# Altium footprint library FPGAOsci.PcbLib: 1 footprints
Each footprint in its own frame and in the unit in brackets; x right, y up, seen from the top. Pads: shape width x height; smd on the part's side, far side on the other; paste and mask are expansions set on the pad; w line width, h text height; cw(c..) or ccw(c..) is an arc to the next point about the centre after c.
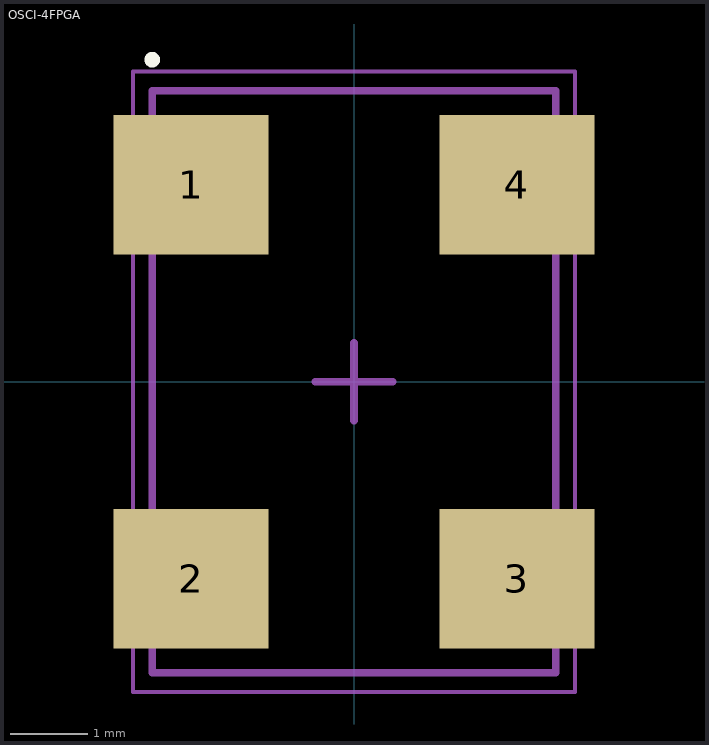
[diagram p0: the footprint, top view; thin cyan lines are the x and y axes]

## OSCI-4FPGA [mm] "DFN3127P600-8N"
height 1.45
pads (4):
  rect 2x1.8 smd: 1(-2.1,2.54) 2(-2.1,-2.54) 3(2.1,-2.54) 4(2.1,2.54)
Top Overlay:
  circle w0.1: c-2.6,4.15 r0.05
Mechanical 13:
  lines w0.1: -2.6,-3.75 2.6,-3.75 2.6,3.75 -2.6,3.75 -2.6,-3.75
Mechanical 15:
  lines w0.05: -2.85,-4 2.85,-4 2.85,4 -2.85,4 -2.85,-4
  lines w0.1: -0.5,0 0.5,0 ; 0,-0.5 0,0.5
3D body: height 1.45, standoff 0, extent -2.6,-3.75 2.6,3.75